# Altium footprint library Hameg.PcbLib: 24 footprints (part 2 of 2)
Each footprint in its own frame and in the unit in brackets; x right, y up, seen from the top. Pads: shape width x height; smd on the part's side, far side on the other; paste and mask are expansions set on the pad; w line width, h text height; cw(c..) or ccw(c..) is an arc to the next point about the centre after c.
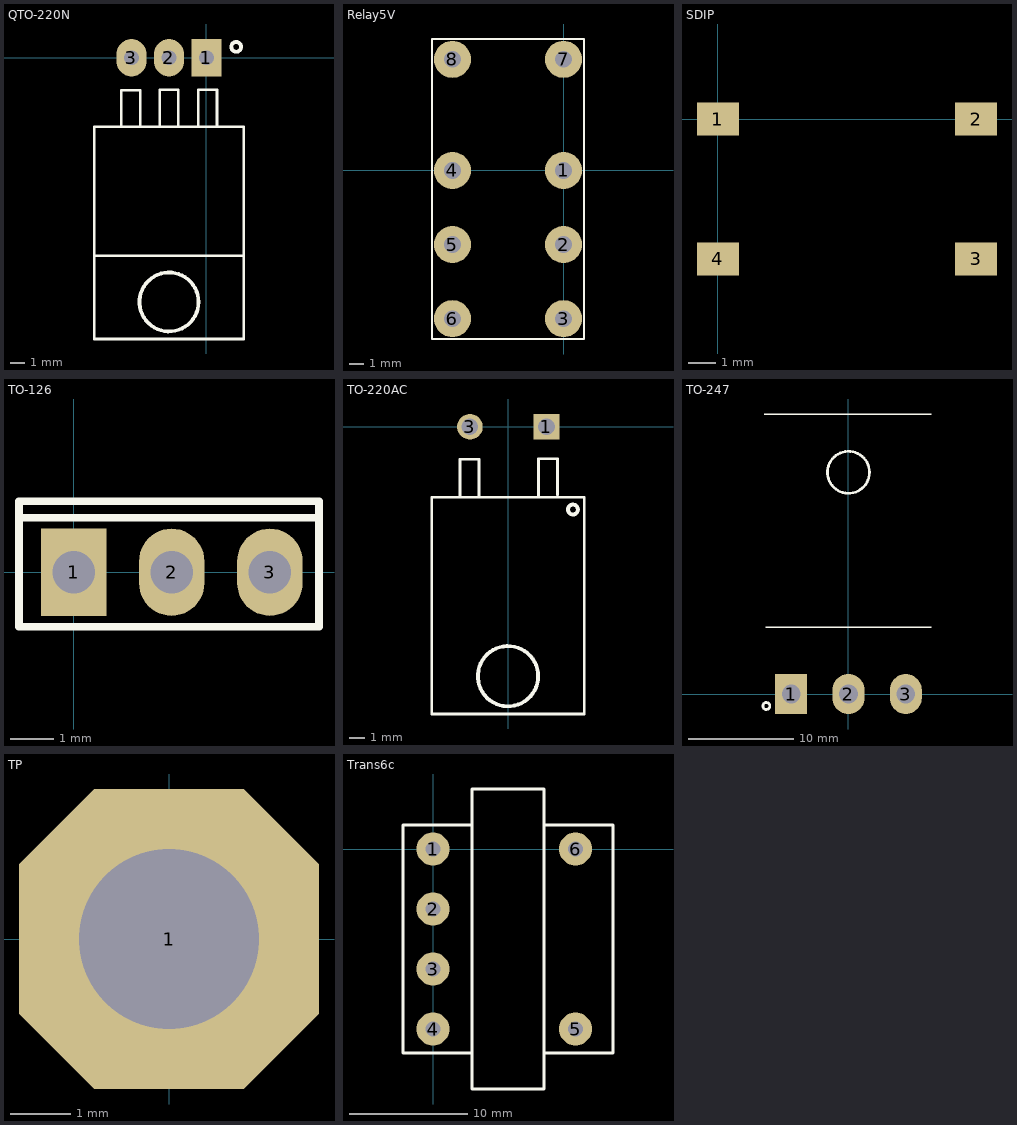
[diagram p1: the footprints below, top view; thin cyan lines are the x and y axes]

## QTO-220N [mil] "TO-220 - 1-2-3"
height 200
pads (3):
  rect 80x100 hole 39: 1(0,0)
  oval 80x100 hole 39: 2(-100,0) 3(-200,0)
Top Overlay:
  circle w10: c-100,-651.26 r78.74
  circle w10: c79.03,29 r12.97
  lines w7: -299.5,-708 -299.5,-527 ; -299.5,-705 -299.5,-750 99.5,-750 99.5,-524 ; -227,-184 -227,-87 -177,-87 -177,-182 ; -125,-182 -125,-85 -75,-85 -75,-180 ; -22,-182 -22,-85 28,-85 28,-180 ; 98.5,-528 -299.5,-528 -299.5,-184 99.5,-184 99.5,-527
3D body: height 180.2, standoff -65.28, extent -300,-751.57 100,7.48

## Relay5V [mil]
pads (8):
  round 100 hole 45: 1(0,0) 2(0,-200) 3(0,-400) 4(-300,0) 5(-300,-200) 6(-300,-400) 7(0,300) 8(-300,300)
Top Overlay:
  lines w5: -355,-455 -355,355 55,355 55,-455 -355,-455
3D body: height 484.25, standoff -118.11, extent -342.9,-459.44 42.92,359.45

## SDIP [mm] "SDIP diode"
pads (4):
  rect 1.52x1.2 smd: 1(0,0) 2(9.398,0) 3(9.398,-5.08) 4(0,-5.08)
3D body: height 3.63, standoff 0, extent -0.381,-6.79 9.619,1.71

## TO-126 [mil] "TO-126 - 1-2-3"
height 200
pads (3):
  rect 60x80 hole 39: 1(0,0)
  oval 60x80 hole 39: 2(90,0) 3(180,0)
Top Overlay:
  lines w7: -50,50 225,50 ; -50,-50 225,-50 225,65 -50,65 -50,-50

## TO-220AC [mm] "TO, Thru-Hole, Vertical, Heatsink Mounted; 3 In-Line Leads (1 Absent); Pitch 2.54 mm"
height 19.2
pads (2):
  rect 1.7x1.7 hole 1.1: 1(2.54,0)
  round 1.7 hole 1.1: 3(-2.54,0)
Top Overlay:
  circle w0.254: c-0.013,-16.542 r2
  circle w0.254: c4.293,-5.486 r0.329
  lines w0.178: -5.08,-18.618 -5.08,-14.021 ; -5.08,-18.542 -5.08,-19.05 5.055,-19.05 5.055,-13.945 ; -5.08,-14.046 -5.08,-4.674 5.055,-4.674 5.055,-14.021 ; -3.175,-4.648 -3.2,-4.623 -3.2,-2.159 -1.93,-2.159 -1.93,-4.572 ; 2.032,-4.597 2.007,-4.572 2.007,-2.108 3.277,-2.108 3.277,-4.521
3D body: height 4.45, standoff -1.79, extent -5.08,-19.09 5.08,0.19

## TO-247 [mil] "TO-247 - 1-2-3"
height 200
pads (3):
  rect 120x150 hole 70: 1(-215,0)
  oval 120x150 hole 70: 2(0,0) 3(215,0)
Top Overlay:
  circle w10: c0,831.26 r78.74
  circle w10: c-307.97,-45 r12.97
  lines w5: -315,1050 310,1050 ; -310,250 310,250
3D body: height 232.28, standoff -240.16, extent -312.99,-15 312.99,1047.28

## TP [mm] "VIT"
height 0.005
pads (1):
  oct 5x5 hole 3: 1(0,0)

## Trans6c [mil]
pads (6):
  round 110 hole 50: 1(0,0) 2(0,-200) 3(0,-400) 4(0,-600) 5(475,-600) 6(475,0)
Top Overlay:
  lines w10: 130,-680 -100,-680 -100,-670 -100,80 130,80 ; 370,-680 510,-680 600,-680 600,80 370,80 ; 130,-800 370,-800 370,200 130,200 130,-800
3D body: height 787.4, standoff 0, extent 130,-800 370,200
3D body: height 688.98, standoff 98.43, extent -100,-680 600,80